# EAGLE library part XBEE-SMT-1 (library rlc)
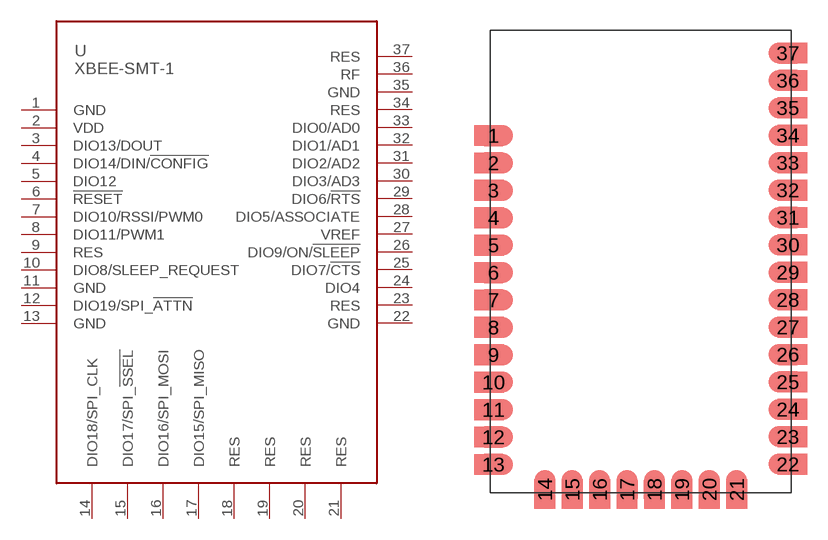
[diagram p12: symbol with the pads of XBEE-SMT; footprint XBEE-SMT]

Designator prefix U

## XBEE-SMT-1  [XBEE-SMT]
1  GND  pwr
2  VDD  pwr
3  DIO13/DOUT
4  DIO14/DIN/!CONFIG
5  DIO12
6  !RESET  in
7  DIO10/RSSI/PWM0
8  DIO11/PWM1
9  RES  nc
10  DIO8/SLEEP_REQUEST
11  GND  pwr
12  DIO19/SPI_!ATTN  out
13  GND  pwr
14  DIO18/SPI_CLK  in
15  DIO17/SPI_!SSEL  in
16  DIO16/SPI_MOSI  in
17  DIO15/SPI_MISO  out
18  RES  nc
19  RES  nc
20  RES  nc
21  RES  nc
22  GND  pwr
23  RES  nc
24  DIO4
25  DIO7/!CTS
26  DIO9/ON/!SLEEP
27  VREF  in
28  DIO5/ASSOCIATE
29  DIO6/!RTS  in
30  DIO3/AD3
31  DIO2/AD2
32  DIO1/AD1
33  DIO0/AD0
34  RES  nc
35  GND  pwr
36  RF
37  RES  nc

## Footprint XBEE-SMT (pad centres in mm)
smd 2.84 x 1.52: 1 -10.745,9.19; 2 -10.745,7.19; 3 -10.745,5.19; 4 -10.745,3.19; 5 -10.745,1.19; 6 -10.745,-0.81; 7 -10.745,-2.81; 8 -10.745,-4.81; 9 -10.745,-6.81; 10 -10.745,-8.81; 11 -10.745,-10.81; 12 -10.745,-12.81; 13 -10.745,-14.81; 22 10.745,-14.79; 23 10.745,-12.79; 24 10.745,-10.79; 25 10.745,-8.79; 26 10.745,-6.79; 27 10.745,-4.79; 28 10.745,-2.79; 29 10.745,-0.79; 30 10.745,1.21; 31 10.745,3.21; 32 10.745,5.21; 33 10.745,7.21; 34 10.745,9.21; 35 10.745,11.21; 36 10.745,13.21; 37 10.745,15.21
smd 1.52 x 2.84: 14 -7,-16.64; 15 -5,-16.64; 16 -3,-16.64; 17 -1,-16.64; 18 1,-16.64; 19 3,-16.64; 20 5,-16.64; 21 7,-16.64